# Altium schematic symbol library Resistors-1206.SchLib: 6 symbols
Pins are listed as number, name and electrical type; pins without a type are passive.

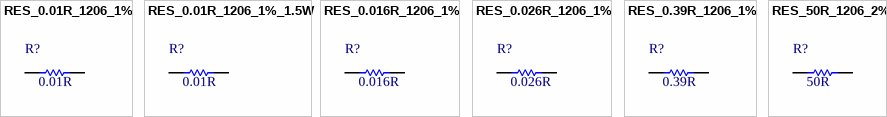
[diagram p0: symbols RES_0.01R_1206_1% to RES_50R_1206_2%]

## RES_0.01R_1206_1%
designator R?, comment value 0.01R  (hidden comment: 0.01R 1% 1206)
0.01R 1W 1% 1206 (3216 Metric); Manufacturer: Panasonic; PartNumber: ERJ-8CWFR010V; Tolerance: 1%; Power: 1W; Mounting Technology: Surface Mount; PackageReference: 1206; PackageDescription: 1206 (3216 Metric); ComponentLink1Description: Datasheet; ComponentLink1URL: https://industrial.panasonic.com/cdbs/www-data/pdf/RDA0000/AOA0000C239.pdf
footprint R1206[3216] (Chip Resistor, Body 3.2x1.6mm)
pins: 1, 2

## RES_0.01R_1206_1%_1.5W
designator R?, comment value 0.01R  (hidden comment: 0.01R 1% 1206)
0.01R 1.5W 1% 1206 (3216 Metric); Manufacturer: KOA Speer; PartNumber: TLR2BPDTD10L0F75; Tolerance: 1%; Power: 1.5W; Mounting Technology: Surface Mount; PackageReference: 1206; PackageDescription: 1206 (3216 Metric)
footprint R1206[3216] (Chip Resistor, Body 3.2x1.6mm)
pins: 1, 2

## RES_0.016R_1206_1%
designator R?, comment value 0.016R  (hidden comment: 0.016R 1% 1206)
0.016R 1W 1% 1206 (3216 Metric); Manufacturer: Panasonic; PartNumber: ERJ-8CWFR016V; Tolerance: 1%; Power: 1W; Mounting Technology: Surface Mount; PackageReference: 1206; PackageDescription: 1206 (3216 Metric); ComponentLink1Description: Datasheet; ComponentLink1URL: https://industrial.panasonic.com/cdbs/www-data/pdf/RDA0000/AOA0000C239.pdf
footprint R1206[3216] (Chip Resistor, Body 3.2x1.6mm)
pins: 1, 2

## RES_0.026R_1206_1%
designator R?, comment value 0.026R  (hidden comment: 0.026R 1% 1206)
0.026R 1W 1% 1206 (3216 Metric); Manufacturer: Panasonic; PartNumber: ERJ-8BWFR027V; Tolerance: 1%; Power: 1W; Mounting Technology: Surface Mount; PackageReference: 1206; PackageDescription: 1206 (3216 Metric); ComponentLink1Description: Datasheet; ComponentLink1URL: https://industrial.panasonic.com/cdbs/www-data/pdf/RDA0000/AOA0000C239.pdf
footprint R1206[3216] (Chip Resistor, Body 3.2x1.6mm)
pins: 1, 2

## RES_0.39R_1206_1%
designator R?, comment value 0.39R  (hidden comment: 0.39R 1% 1206)
0.39R 0.5W 1% 1206 (3216 Metric); Manufacturer: Vishay Dale; PartNumber: RCWE1206R390FKEA; Tolerance: 1%; Power: 0.5W; Mounting Technology: Surface Mount; PackageReference: 1206; PackageDescription: 1206 (3216 Metric); ComponentLink1Description: Datasheet; ComponentLink1URL: https://industrial.panasonic.com/cdbs/www-data/pdf/RDA0000/AOA0000C239.pdf
footprint R1206[3216] (Chip Resistor, Body 3.2x1.6mm)
pins: 1, 2

## RES_50R_1206_2%
designator R?, comment value 50R  (hidden comment: 50R 2% 1206)
50R 2.4W 2% 1206 (3216 Metric); Manufacturer: Vishay; PartNumber: RCP1206W50R0GEB; Tolerance: 2%; Power: 2.4W; Mounting Technology: Surface Mount; PackageReference: 1206; PackageDescription: 1206 (3216 Metric); ComponentLink1Description: Datasheet; ComponentLink1URL: http://www.vishay.com/docs/31098/rcp.pdf
footprint R1206[3216] (Chip Resistor, Body 3.2x1.6mm)
pins: 1, 2